# EAGLE library part FSBS10CH60 (library Menic)
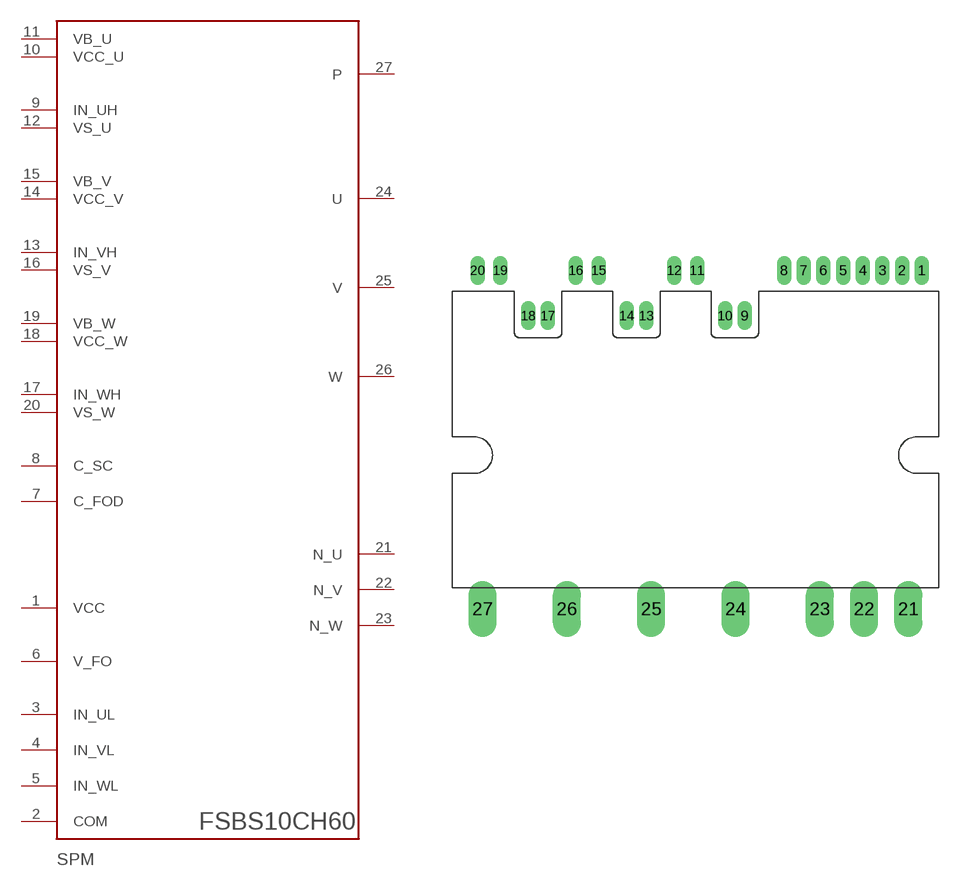
[diagram p1: symbol with the pads of SPM27-BA; footprint SPM27-BA]

Designator prefix SPM

## FSBS10CH60  [SPM27-BA]
1  VCC  pas
2  COM  pas
3  IN_UL  pas
4  IN_VL  pas
5  IN_WL  pas
6  V_FO  pas
7  C_FOD  pas
8  C_SC  pas
9  IN_UH  pas
10  VCC_U  pas
11  VB_U  pas
12  VS_U  pas
13  IN_VH  pas
14  VCC_V  pas
15  VB_V  pas
16  VS_V  pas
17  IN_WH  pas
18  VCC_W  pas
19  VB_W  pas
20  VS_W  pas
21  N_U  pas
22  N_V  pas
23  N_W  pas
24  U  pas
25  V  pas
26  W  pas
27  P  pas

## Footprint SPM27-BA (pad centres in mm)
drill 0.8 pad 1.016 long: 1 20.447,15.3; 2 18.669,15.3; 3 16.891,15.3; 4 15.113,15.3; 5 13.335,15.3; 6 11.557,15.3; 7 9.779,15.3; 8 8.001,15.3; 9 4.445,11.2; 10 2.667,11.2; 11 0.136,15.3; 12 -1.914,15.3; 13 -4.445,11.2; 14 -6.223,11.2; 15 -8.754,15.3; 16 -10.804,15.3; 17 -13.335,11.2; 18 -15.113,11.2; 19 -17.644,15.3; 20 -19.694,15.3
drill 1.3 pad 2.54 long: 21 19.24,-15.3; 22 15.24,-15.3; 23 11.24,-15.3; 24 3.62,-15.3; 25 -4,-15.3; 26 -11.62,-15.3; 27 -19.24,-15.3